# Altium footprint library ESP32_USB.PcbLib: 13 footprints
Each footprint in its own frame and in the unit in brackets; x right, y up, seen from the top. Pads: shape width x height; smd on the part's side, far side on the other; paste and mask are expansions set on the pad; w line width, h text height; cw(c..) or ccw(c..) is an arc to the next point about the centre after c.
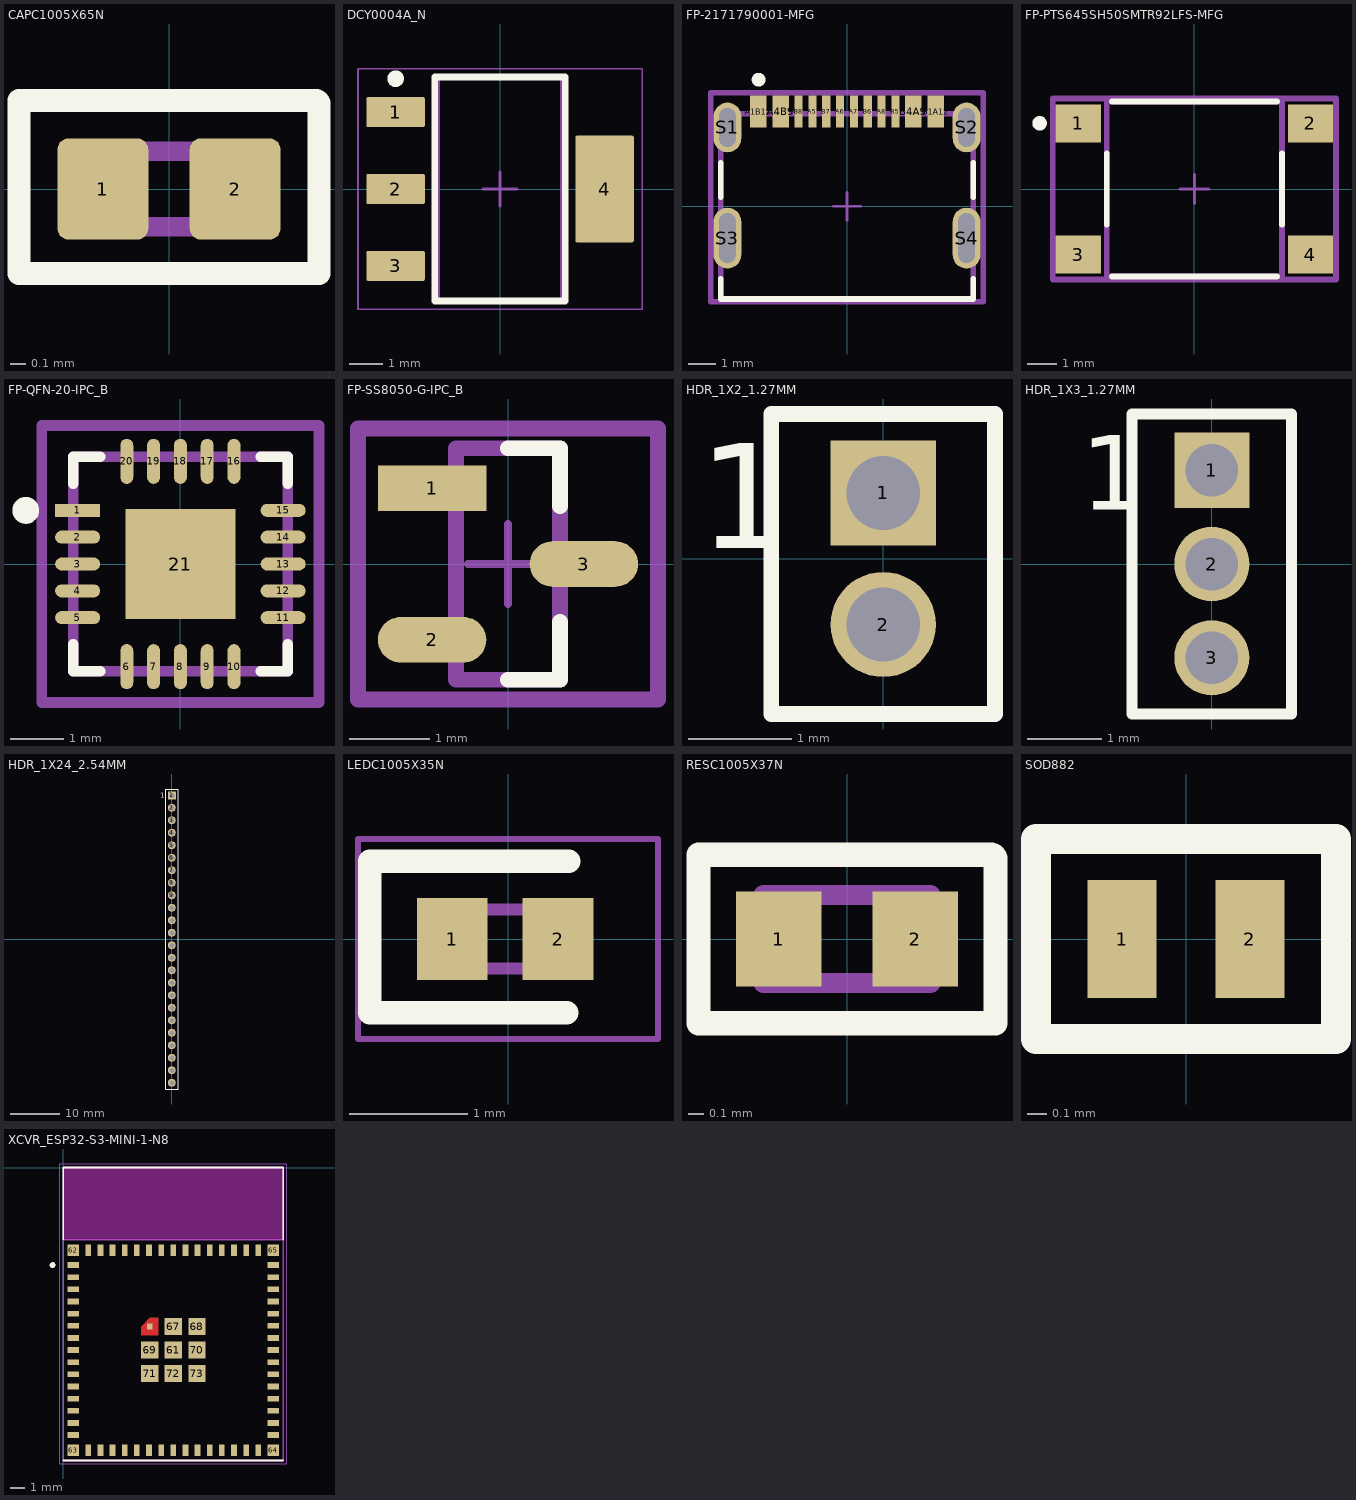
[diagram p0: the footprints below, top view; thin cyan lines are the x and y axes]

## CAPC1005X65N [mm]
pads (2):
  rrect25% 0.6x0.67 smd: 1(-0.437,0) 2(0.437,0)
Top Overlay:
  lines w0.152: -0.991,-0.559 0.991,-0.559 0.991,0.559 ccw(c0.965,0.559) 0.965,0.584 -0.991,0.584 -0.991,-0.559
Top 3D Body:
  lines w0.127: -0.5,-0.25 -0.5,0.25 0.5,0.25 0.5,-0.25 -0.5,-0.25
Top Courtyard:
  lines w0.05: -0.987,-0.585 -0.987,0.585 0.987,0.585 0.987,-0.585 -0.987,-0.585
3D body "step_temp.STEP": height 0.55, standoff 0, extent -0.5,-0.25 0.5,0.25

## DCY0004A_N [mm] "SOT223, 4-Leads, Body 6.7x3.7mm, Pitch 2.3mm, IPC Medium Density"
height 1.8
pads (4):
  rrect11% 1.75x0.9 smd: 1(-3.125,2.3) 2(-3.125,0) 3(-3.125,-2.3)
  rrect6% 1.75x3.2 smd: 4(3.125,0)
Top Overlay:
  circle w0.25: c-3.125,3.3 r0.125
  lines w0.2: -1.95,-3.35 -1.95,3.35 1.95,3.35 1.95,-3.35 -1.95,-3.35
Mechanical 1:
  text ".Designator" at -1.651,-0.254 h0.8
Top 3D Body:
  lines w0.1: -1.85,-3.35 -1.85,3.35 1.85,3.35 1.85,-3.35 -1.85,-3.35
Top Courtyard:
  lines w0.05: -4.25,-3.6 -4.25,3.6 4.25,3.6 4.25,-3.6 -4.25,-3.6
  lines w0.1: -0.5,0 0.5,0 ; 0,-0.5 0,0.5
3D body "SOT-223.stp": height 1.62, standoff -0.03, extent -3.5,-3.25 3.5,3.25

## FP-2171790001-MFG [mm]
pads (16):
  rect 0.6x1.15 smd paste+0 mask+0: A1B12(-3.2,3.425) A4B9(-2.4,3.425) B1A12(3.2,3.425) B4A9(2.4,3.425)
  rect 0.3x1.15 smd paste+0 mask+0: A5(-1.25,3.425) A6(-0.25,3.425) A7(0.25,3.425) A8(1.25,3.425) B5(1.75,3.425) B6(0.75,3.425) B7(-0.75,3.425) B8(-1.75,3.425)
  rrect100% 1x1.8 hole 1.4 slot 0.6 at 0 deg paste-2539.97 mask+0: S1(-4.32,2.85) S2(4.32,2.85)
  rrect100% 1x2.2 hole 1.8 slot 0.6 at 0 deg paste-2539.97 mask+0: S3(-4.32,-1.15) S4(4.32,-1.15)
Top Overlay:
  circle w0.25: c-3.195,4.575 r0.125
  lines w0.2: -4.57,-2.625 -4.57,-3.35 4.57,-3.35 4.57,-2.625 ; -4.57,0.325 -4.57,1.575 ; 4.57,0.325 4.57,1.575
Top Assembly:
  lines w0.2: -4.92,-3.45 -4.92,4.1 4.92,4.1 4.92,-3.45 -4.92,-3.45
  text ".Designator" at 0,0.513 h1
Top 3D Body:
  lines w0.2: -4.57,-3.35 -4.57,3.35 4.57,3.35 4.57,-3.35 -4.57,-3.35
Top Courtyard:
  lines w0.2: -4.92,-3.45 -4.92,4.1 4.92,4.1 4.92,-3.45 -4.92,-3.45
Top Component Center:
  lines w0.1: -0.5,0 0.5,0 ; 0,-0.5 0,0.5
3D body "Conn_Molex_2171790001_eec.STEP": height 0.25, standoff 0, extent -4.92,-3.45 4.92,4.1

## FP-PTS645SH50SMTR92LFS-MFG [mm]
pads (4):
  rect 1.55x1.3 smd paste+0 mask+0: 1(-3.975,2.25) 2(3.975,2.25) 3(-3.975,-2.25) 4(3.975,-2.25)
Top Overlay:
  circle w0.25: c-5.3,2.25 r0.125
  lines w0.2: -3,-1.225 -3,1.225 ; -2.825,-3 2.825,-3 ; -2.825,3 2.825,3 ; 3,-1.225 3,1.225
Top Assembly:
  lines w0.2: -4.85,-3.1 4.85,-3.1 4.85,3.1 -4.85,3.1 -4.85,-3.1
  text ".Designator" at 0,0.188 h1
Top 3D Body:
  lines w0.2: -3,-3 3,-3 3,3 -3,3 -3,-3
Top Courtyard:
  lines w0.2: -4.85,-3.1 4.85,-3.1 4.85,3.1 -4.85,3.1 -4.85,-3.1
Top Component Center:
  lines w0.1: -0.5,0 0.5,0 ; 0,-0.5 0,0.5
3D body "PTS645SH50SMTR92LFS.stp": height 5, standoff 0, extent -4.445,-3 4.555,3

## FP-QFN-20-IPC_B [mm]
pads (21):
  rect 0.84x0.242 smd paste+0 mask+0: 1(-1.916,1)
  rrect100% 0.84x0.242 smd paste+0 mask+0: 2(-1.916,0.5) 3(-1.916,0) 4(-1.916,-0.5) 5(-1.916,-1) 11(1.916,-1) 12(1.916,-0.5) 13(1.916,0) 14(1.916,0.5) 15(1.916,1)
  rrect100% 0.242x0.84 smd paste+0 mask+0: 6(-1,-1.916) 7(-0.5,-1.916) 8(0,-1.916) 9(0.5,-1.916) 10(1,-1.916) 16(1,1.916) 17(0.5,1.916) 18(0,1.916) 19(-0.5,1.916) 20(-1,1.916)
  rect 2.05x2.05 smd paste-1000 mask+0: 21(0,0)
Top Overlay:
  circle w0.25: c-2.885,1 r0.125
  lines w0.2: -2,-1.5 -2,-2 -1.5,-2 ; -2,1.5 -2,2 -1.5,2 ; 1.5,-2 2,-2 2,-1.5 ; 1.5,2 2,2 2,1.5
Top Paste:
  rectangle: -0.648,-0.648 0.648,0.648
Top Assembly:
  lines w0.2: -2.585,-2.585 2.585,-2.585 2.585,2.585 -2.585,2.585 -2.585,-2.585
  text ".Designator" at 0,0.188 h1
Top 3D Body:
  lines w0.2: -2,-2 2,-2 2,2 -2,2 -2,-2
Top Courtyard:
  lines w0.2: -2.585,-2.585 2.585,-2.585 2.585,2.585 -2.585,2.585 -2.585,-2.585
Top Component Center:
  lines w0.1: -0.5,0 0.5,0 ; 0,-0.5 0,0.5
3D body "IC_FTDI_FT231XQ-R_eec.STEP": height 0.25, standoff 0, extent -2.585,-2.585 2.585,2.585

## FP-SS8050-G-IPC_B [mm]
pads (3):
  rect 1.357x0.572 smd paste+0 mask+0: 1(-0.951,0.95)
  rrect100% 1.357x0.572 smd paste+0 mask+0: 2(-0.951,-0.95) 3(0.951,0)
Top Overlay:
  lines w0.2: 0,-1.45 0.65,-1.45 0.65,-0.725 ; 0,1.45 0.65,1.45 0.65,0.725
Top Assembly:
  lines w0.2: -1.879,-1.7 -1.879,1.7 1.879,1.7 1.879,-1.7 -1.879,-1.7
  text ".Designator" at 0,-0.001 h1
Top 3D Body:
  lines w0.2: -0.65,-1.45 -0.65,1.45 0.65,1.45 0.65,-1.45 -0.65,-1.45
Top Courtyard:
  lines w0.2: -1.879,-1.7 -1.879,1.7 1.879,1.7 1.879,-1.7 -1.879,-1.7
Top Component Center:
  lines w0.1: -0.5,0 0.5,0 ; 0,-0.5 0,0.5
3D body "Trans_Comchip_SS8050-G_eec.STEP": height 0.25, standoff 0, extent -1.879,-1.7 1.879,1.7

## HDR_1X2_1.27MM [mil]
pads (2):
  rect 40x40 hole 28: 1(0,25)
  round 40 hole 28: 2(0,-25)
Top Overlay:
  lines w6: -42.5,-59 -21.25,-59 21.25,-59 42.5,-59 42.5,55 -42.5,55 -42.5,-59
  text "1" at -70,4 h40
3D body "FTS-102-01-F-S.stp": height 154.5, standoff -89.5, extent -42.5,-50 42.5,50

## HDR_1X3_1.27MM [mil]
pads (3):
  rect 40x40 hole 28: 1(0,50)
  round 40 hole 28: 2(0,0) 3(0,-50)
Top Overlay:
  lines w6: -42.5,-80 42.5,-80 42.5,80 -42.5,80 -42.5,-80
  text "1" at -70,29 h40
3D body "FTS-103-01-F-S.stp": height 124.5, standoff -119.5, extent -42.5,-75 42.5,75

## HDR_1X24_2.54MM [mil]
pads (24):
  rect 64x64 hole 40: 1(0,1150)
  round 64 hole 40: 2(0,1050) 3(0,950) 4(0,850) 5(0,750) 6(0,650) 7(0,550) 8(0,450) 9(0,350) 10(0,250) 11(0,150) 12(0,50) 13(0,-50) 14(0,-150) 15(0,-250) 16(0,-350) 17(0,-450) 18(0,-550) 19(0,-650) 20(0,-750) 21(0,-850) 22(0,-950) 23(0,-1050) 24(0,-1150)
Top Overlay:
  lines w10: -50,-1200 -50,1200 50,1200 50,-1200 -50,-1200
  text "1" at -94,1131 h40
3D body "0022284245.stp": height 377.5, standoff -127.5, extent -50,-1200 48,1200

## LEDC1005X35N [mm]
pads (2):
  rect 0.6x0.7 smd: 1(-0.475,0) 2(0.425,0)
Top Overlay:
  lines w0.152: -1.191,0.675 cw(c-1.191,0.659) -1.175,0.659
  lines w0.2: 0.5,-0.625 -1.175,-0.625 -1.175,0.659 0.516,0.659
Top Courtyard:
  lines w0.1: -0.5,0.083 -0.333,0.25 ; -0.5,-0.25 -0.5,0.25 0.5,0.25 0.5,-0.25 -0.5,-0.25
Bottom Assembly:
  lines w0.05: -1.275,-0.85 -1.275,0.85 1.275,0.85 1.275,-0.85 -1.275,-0.85
3D body "VLMG1500-GS08.stp": height 0.36, standoff 0.01, extent -0.525,-0.275 0.475,0.225

## RESC1005X37N [mm]
pads (2):
  rect 0.54x0.6 smd: 1(-0.432,0) 2(0.432,0)
Top Overlay:
  lines w0.152: -0.94,-0.533 -0.94,0.533 0.914,0.533 cw(c0.914,0.508) 0.94,0.508 0.94,-0.533 -0.94,-0.533
Top 3D Body:
  lines w0.127: -0.53,-0.28 0.53,-0.28 0.53,0.28 -0.53,0.28 -0.53,-0.28
Top Courtyard:
  lines w0.05: -0.95,-0.55 0.95,-0.55 0.95,0.55 -0.95,0.55 -0.95,-0.55
3D body "step_temp.STEP": height 0.37, standoff 0, extent -0.5,-0.25 0.5,0.25

## SOD882 [mm]
pads (2):
  rect 0.35x0.6 smd: 1(-0.325,0) 2(0.325,0)
Top Overlay:
  lines w0.152: -0.762,-0.508 0.762,-0.508 0.762,0.508 -0.762,0.508 -0.762,-0.508
3D body "RTVS_SOD882_LTF.step": height 0.57, standoff 0.01, extent -0.546,-0.33 0.546,0.33

## XCVR_ESP32-S3-MINI-1-N8 [mm]
height 2.55
pads (73):
  rect 0.8x0.4 smd: 1(0.7,-6.825) 2(0.7,-7.675) 3(0.7,-8.525) 4(0.7,-9.375) 5(0.7,-10.225) 6(0.7,-11.075) 7(0.7,-11.925) 8(0.7,-12.775) 9(0.7,-13.625) 10(0.7,-14.475) 11(0.7,-15.325) 12(0.7,-16.175) 13(0.7,-17.025) 14(0.7,-17.875) 15(0.7,-18.725) 31(14.7,-18.725) 32(14.7,-17.875) 33(14.7,-17.025) 34(14.7,-16.175) 35(14.7,-15.325) 36(14.7,-14.475) 37(14.7,-13.625) 38(14.7,-12.775) 39(14.7,-11.925) 40(14.7,-11.075) 41(14.7,-10.225) 42(14.7,-9.375) 43(14.7,-8.525) 44(14.7,-7.675) 45(14.7,-6.825)
  rect 0.4x0.8 smd: 16(1.75,-19.775) 17(2.6,-19.775) 18(3.45,-19.775) 19(4.3,-19.775) 20(5.15,-19.775) 21(6,-19.775) 22(6.85,-19.775) 23(7.7,-19.775) 24(8.55,-19.775) 25(9.4,-19.775) 26(10.25,-19.775) 27(11.1,-19.775) 28(11.95,-19.775) 29(12.8,-19.775) 30(13.65,-19.775) 46(13.65,-5.775) 47(12.8,-5.775) 48(11.95,-5.775) 49(11.1,-5.775) 50(10.25,-5.775) 51(9.4,-5.775) 52(8.55,-5.775) 53(7.7,-5.775) 54(6.85,-5.775) 55(6,-5.775) 56(5.15,-5.775) 57(4.3,-5.775) 58(3.45,-5.775) 59(2.6,-5.775) 60(1.75,-5.775)
  rect 1.2x1.2 smd: 61(7.7,-12.775) 67(7.7,-11.125) 68(9.35,-11.125) 69(6.05,-12.775) 70(9.35,-12.775) 71(6.05,-14.425) 72(7.7,-14.425) 73(9.35,-14.425)
  rect 0.8x0.8 smd: 62(0.7,-5.775) 63(0.7,-19.775) 64(14.7,-19.775) 65(14.7,-5.775)
  rect 0.4x0.4 smd paste-1 mask+0: 66(6.05,-11.125)
Top Layer:
  region: 6.65,-11.725 5.45,-11.725 5.45,-11.125 6.05,-10.525 6.65,-10.525
Top Overlay:
  circle w0.2: c-0.75,-6.825 r0.1
  lines w0.127: 0,-20.5 15.4,-20.5 ; 0,-5.05 0,0 15.4,0 15.4,-5.05
Top Paste:
  region: 6.65,-11.725 5.45,-11.725 5.45,-11.125 6.05,-10.525 6.65,-10.525
Top Solder:
  region: 6.75,-11.825 5.35,-11.825 5.35,-11.075 6,-10.425 6.75,-10.425
Keep-Out Layer:
  region: 15.4,-5.05 0,-5.05 0,0 15.4,0
  region: 15.4,-5.05 0,-5.05 0,0 15.4,0
Top 3D Body:
  circle w0.2: c-0.75,-6.825 r0.1
  lines w0.127: 0,-5.05 0,-20.5 15.4,-20.5 15.4,-5.05 ; 0,-5.05 0,0 15.4,0 15.4,-5.05 ; 0,-5.05 15.4,-5.05
Top Courtyard:
  lines w0.05: -0.25,-20.75 -0.25,0.25 15.65,0.25 15.65,-20.75 -0.25,-20.75
3D body "ESP32-S3-MINI-1-N8.STEP": height 2.56, standoff 0.01, extent 0,-20.5 15.4,0